# Altium integrated library Big_Library_Optocoupler.IntLib: 4 symbols
Pins are listed as number, name and electrical type; pins without a type are passive.

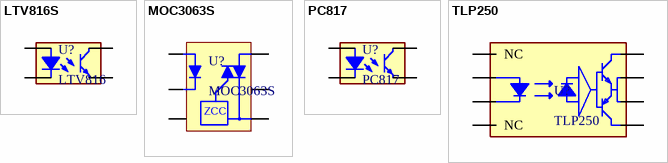
[diagram p0: symbols LTV816S to TLP250]

## LTV816S
designator U?, comment LTV816
Optoisolator 5KV Trans 4SMD / Optocoupler Dc-in 1-CH Transistor Dc-out 4-PIN PDIP SMD; Collector Emitter Voltage (VCEO): 80V; Forward Voltage: 1.4V; Rise Time: 18000ns; Number of Channels: 1; Output Current per Channel: 30mA; Power Dissipation: 200mW; Input Type: DC; Reverse Breakdown Voltage: 6V; Forward Current: 50mA; Collector Emitter Saturation Voltage: 200mV; RoHS: Yes; Category: Optocouplers; Mount: Surface Mount; Case/Package: SMD/SMT; Number of Pins: 4; Contact Plating: Copper,Tin; Min Operating Temperature: -30°C; Max Operating Temperature: 100°C; Packaging: Tape and Reel; Package Quantity: 2000; Number of Elements: 1; Fall Time: 18000ns; Collector-emitter Voltage-Max: 200mV; Max Power Dissipation: 200mW; Max Collector Current: 50mA; Max Input Current: 50mA; Isolation Voltage: 5kV; Output Voltage: 80V; Max Output Voltage: 80V; Input Current: 50mA; Isolation Voltage-Max: 5kV; Radiation Hardening: No; RoHS Compliant: Yes; Lead Free: Lead Free; ComponentLink1Description: Link; ComponentLink1URL: https://ozdisan.com/optoelectronics-and-sensors/optoelectronics/optocoupler-transistor-output/LTV-816S-TA1-A/504253
footprint FP-PC817X1J000F-MFG
footprint FP-PC817XNNIP0F-MFG
pins: 1, 2, 3, 4

## MOC3063S
designator U?
OPTOISOLATOR 4.17KV TRIAC 6SMD; Manufacturer: ON Semiconductor / Fairchild; Manufacturer Part Number: MOC3063SM; Number of Channels: 1; Forward Voltage: 1.3V; Hold Current: 500uA; Max Input Voltage: 1.5V; Forward Current: 60mA; Reverse Breakdown Voltage: 6V; Max Power Dissipation: 250mW; Isolation Voltage: 7.5kV; Output Voltage: 600V; Approvals: UL; Supplier 1: Future Electronics; RoHS: Yes; Category: Uncategorized; Stock 1: 23110; Pricing 1: 50=0,44500, 200=0,42500, 750=0,41000, 1500=0,40000, 3750=0,38000 (USD); Mount: Surface Mount; Case/Package: SMD/SMT; Number of Pins: 6; Weight: 0.81g; Contact Plating: Tin,Matte; Min Operating Temperature: -40°C; Max Operating Temperature: 85°C; Packaging: Bulk; Nominal Input Voltage: 1.3V; Number of Elements: 1; Power Dissipation: 250mW; Number of Circuits: 1; Series: -; Isolation Voltage-Max: 7.5kV; Package Quantity: 1000; Max Output Voltage: 600V; Max Input Current: 60mA; Input Current: 60mA; Length: 8.89mm; Width: 6.6mm; Height: 3.53mm; Radiation Hardening: No; Lead Free: Lead Free; RoHS Compliant: Yes; Reach SVHC Compliant: Yes; ComponentLink1URL: https://datasheet.ciiva.com/15118/getdatasheetpartid-92568-15118234.pdf?src-supplier=Verical; ComponentLink1Description: https://datasheet.ciiva.com/15118/getdatasheetpartid-92568-15118234.pdf?src-supplier=Verical; ComponentLink2URL: https://datasheet.ciiva.com/27051/1003676-27051197.pdf?src-supplier=Jameco; ComponentLink2Description: https://datasheet.ciiva.com/27051/1003676-27051197.pdf?src-supplier=Jameco; ComponentLink3URL: https://datasheet.ciiva.com/25620/0900766b810e2598-25620778.pdf?src-supplier=Rs; ComponentLink3Description: https://datasheet.ciiva.com/25620/0900766b810e2598-25620778.pdf?src-supplier=Rs; ComponentLink4URL: https://datasheet.ciiva.com/22654/1688212-22654367.pdf?src-supplier=Element14; ComponentLink4Description: https://datasheet.ciiva.com/22654/1688212-22654367.pdf?src-supplier=Element14; ComponentLink5URL: https://datasheet.ciiva.com/17381/moc3061m-17381290.pdf?src-supplier=Future+Electronics; ComponentLink5Description: https://datasheet.ciiva.com/17381/moc3061m-17381290.pdf?src-supplier=Future+Electronics; ComponentLink6URL: https://datasheet.ciiva.com/2093/moc3061m-2093103.pdf?src-supplier=Digi-Key; ComponentLink6Description: https://datasheet.ciiva.com/2093/moc3061m-2093103.pdf?src-supplier=Digi-Key
footprint SMD6-2
pins: 1 A, 2 C, 3 NC, 4 MT, 5 NC, 6 MT
text: ZCC

## PC817
designator U?
Optoisolator 5KV Trans 4SMD / Optocoupler Dc-in 1-CH Transistor Dc-out 4-PIN PDIP SMD; Manufacturer: Sharp; Manufacturer Part Number: PC817XNNIP0F; Collector Emitter Voltage (VCEO): 80V; Forward Voltage: 1.4V; Rise Time: 18000ns; Output Current per Channel: 30mA; Power Dissipation: 200mW; Input Type: DC; Reverse Breakdown Voltage: 6V; Forward Current: 50mA; Collector Emitter Saturation Voltage: 200mV; Fall Time: 18000ns; Collector-emitter Voltage-Max: 200mV; Max Power Dissipation: 200mW; Max Collector Current: 50mA; Max Input Current: 50mA; Isolation Voltage: 5kV; Output Voltage: 80V; Max Output Voltage: 80V; Input Current: 50mA; Isolation Voltage-Max: 5kV; ComponentLink1Description: Link
footprint FP-PC817X1J000F-MFG
footprint FP-PC817XNNIP0F-MFG
pins: 1, 2, 3, 4

## TLP250
designator U?
Optocoupler Logic-Out Totem-Pole DC-IN 1-CH 8-Pin DIP; Manufacturer: Toshiba; Manufacturer Part Number: TLP250H(D4F); Supplier 1: Avnet; RoHS: No; Stock 1: 10000
footprint FP-11-10C4-MFG
pins: 1 NC, 2 A, 3 C, 4 NC, 5 GND, 6 VO, 7 VO, 8 VCC